# Altium footprint library PCB - CONNECTOR - HARWIN - HARWIN M20-7820345.PcbLib: 1 footprints
Each footprint in its own frame and in the unit in brackets; x right, y up, seen from the top. Pads: shape width x height; smd on the part's side, far side on the other; paste and mask are expansions set on the pad; w line width, h text height; cw(c..) or ccw(c..) is an arc to the next point about the centre after c.
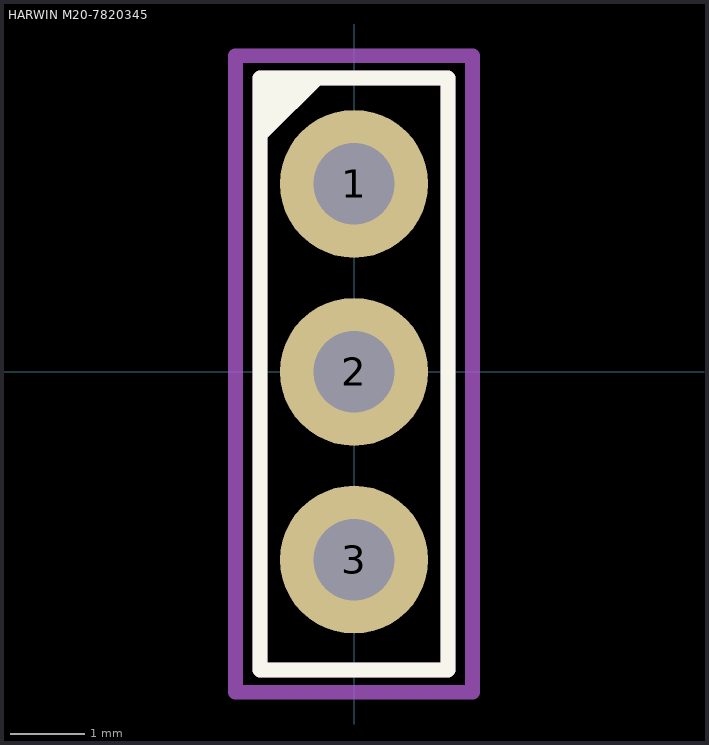
[diagram p0: the footprint, top view; thin cyan lines are the x and y axes]

## HARWIN M20-7820345 [mm] "2.54mm DIL PC TAIL PIN HEADER ASSEMBLY"
height 5
pads (3):
  round 2 hole 1.1: 1(0,2.54) 2(0,0) 3(0,-2.54)
Top Overlay:
  region: -1.23,4 -1.23,3.1 -0.33,4
  lines w0.2: -1.27,-4.03 1.27,-4.03 1.27,3.97 -1.27,3.97 -1.27,-4.03
Top Assembly:
  lines w0.2: -0.5,0 0.5,0 ; 0,-0.5 0,0.5 ; -1.27,-4.03 1.27,-4.03 1.27,3.97 -1.27,3.97 -1.27,-4.03
Top Courtyard (Mech15):
  lines w0.2: -1.6,-4.33 1.6,-4.33 1.6,4.27 -1.6,4.27 -1.6,-4.33
3D body "M20-7820342.step": height 8.5, standoff -3, extent -1.25,-4.01 1.25,4.01